# Altium integrated library TC2050-IDC.IntLib: 1 symbol
Pins are listed as number, name and electrical type; pins without a type are passive.

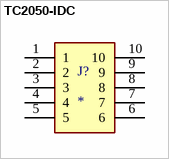
[diagram p0: symbol TC2050-IDC]

## TC2050-IDC
designator J?
Cbl Plug-Of-Nails 10-Pin w/Legs; MP: TC2050-IDC; Value: *; Availability: Unavailable; Price: None; Package: None
footprint TAG-CONNECT_TC2050-IDC
pins: 1, 2, 3, 4, 5, 6, 7, 8, 9, 10